# EAGLE library part FFJ105-2 (library ledningsnet)
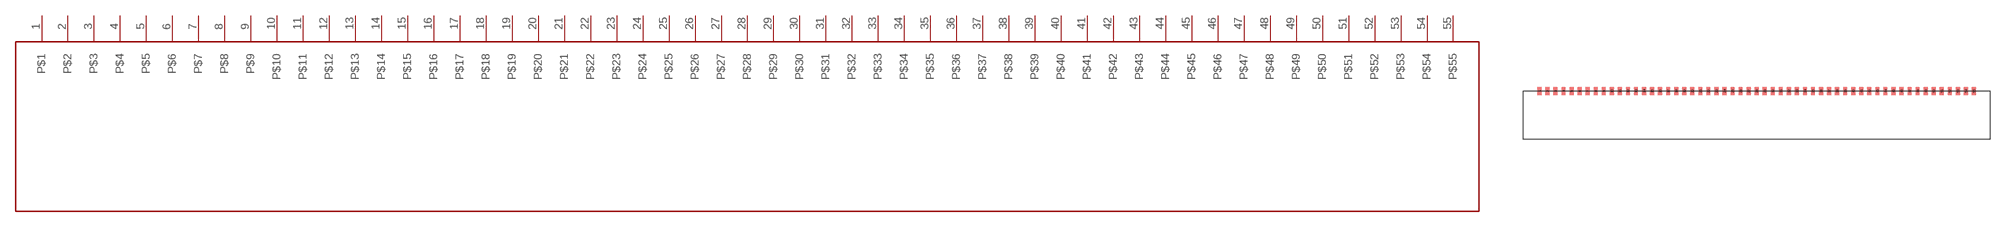
[diagram p0: symbol with the pads of FFJ105_2_55PIN; footprint FFJ105_2_55PIN]

Designator prefix -

## FFJ105-2  [FFJ105_2_55PIN]
1  P$1
2  P$2
3  P$3
4  P$4
5  P$5
6  P$6
7  P$7
8  P$8
9  P$9
10  P$10
11  P$11
12  P$12
13  P$13
14  P$14
15  P$15
16  P$16
17  P$17
18  P$18
19  P$19
20  P$20
21  P$21
22  P$22
23  P$23
24  P$24
25  P$25
26  P$26
27  P$27
28  P$28
29  P$29
30  P$30
31  P$31
32  P$32
33  P$33
34  P$34
35  P$35
36  P$36
37  P$37
38  P$38
39  P$39
40  P$40
41  P$41
42  P$42
43  P$43
44  P$44
45  P$45
46  P$46
47  P$47
48  P$48
49  P$49
50  P$50
51  P$51
52  P$52
53  P$53
54  P$54
55  P$55

## Footprint FFJ105_2_55PIN (pad centres in mm)
smd 0.635 x 1.27: 1 -34.29,3.81; 2 -33.02,3.81; 3 -31.75,3.81; 4 -30.48,3.81; 5 -29.21,3.81; 6 -27.94,3.81; 7 -26.67,3.81; 8 -25.4,3.81; 9 -24.13,3.81; 10 -22.86,3.81; 11 -21.59,3.81; 12 -20.32,3.81; 13 -19.05,3.81; 14 -17.78,3.81; 15 -16.51,3.81; 16 -15.24,3.81; 17 -13.97,3.81; 18 -12.7,3.81; 19 -11.43,3.81; 20 -10.16,3.81; 21 -8.89,3.81; 22 -7.62,3.81; 23 -6.35,3.81; 24 -5.08,3.81; 25 -3.81,3.81; 26 -2.54,3.81; 27 -1.27,3.81; 28 0,3.81; 29 1.27,3.81; 30 2.54,3.81; 31 3.81,3.81; 32 5.08,3.81; 33 6.35,3.81; 34 7.62,3.81; 35 8.89,3.81; 36 10.16,3.81; 37 11.43,3.81; 38 12.7,3.81; 39 13.97,3.81; 40 15.24,3.81; 41 16.51,3.81; 42 17.78,3.81; 43 19.05,3.81; 44 20.32,3.81; 45 21.59,3.81; 46 22.86,3.81; 47 24.13,3.81; 48 25.4,3.81; 49 26.67,3.81; 50 27.94,3.81; 51 29.21,3.81; 52 30.48,3.81; 53 31.75,3.81; 54 33.02,3.81; 55 34.29,3.81